# Altium footprint library ecg-go.PcbLib: 21 footprints (part 1 of 2)
Each footprint in its own frame and in the unit in brackets; x right, y up, seen from the top. Pads: shape width x height; smd on the part's side, far side on the other; paste and mask are expansions set on the pad; w line width, h text height; cw(c..) or ccw(c..) is an arc to the next point about the centre after c.
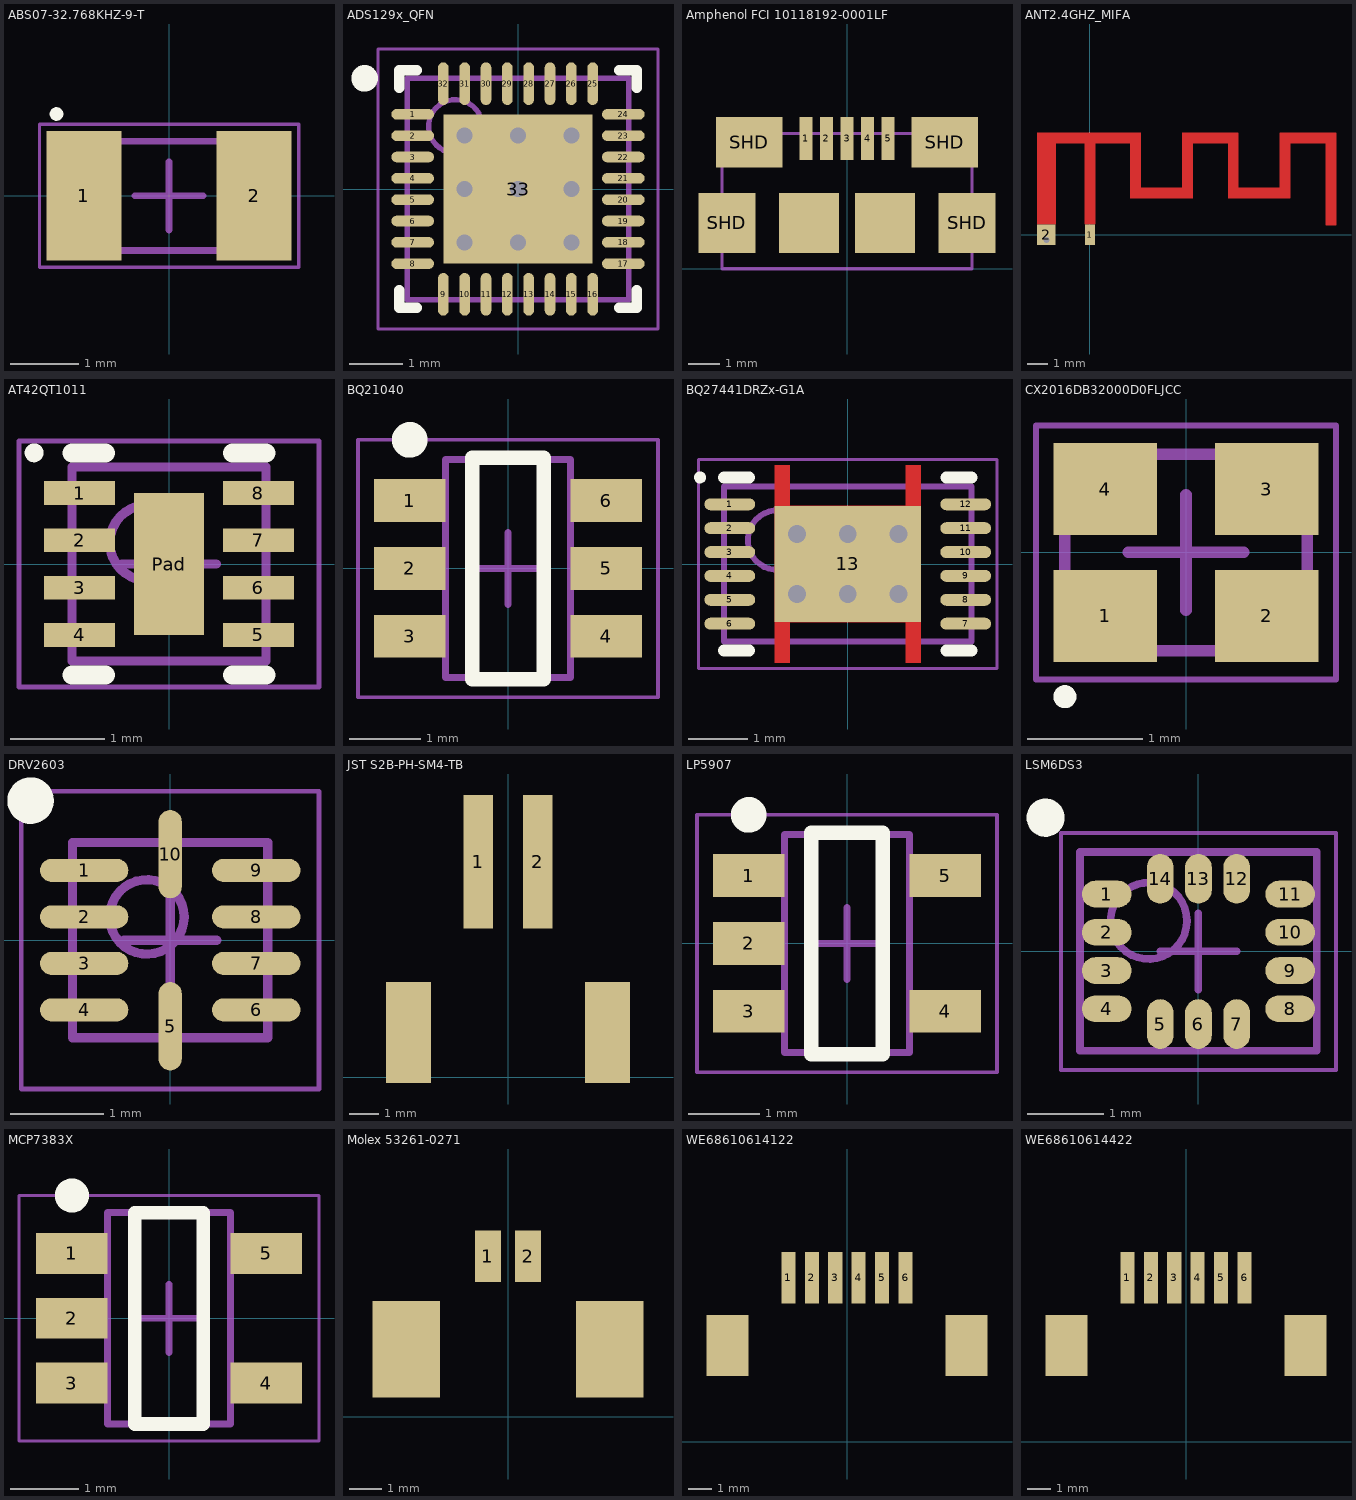
[diagram p0: the footprints below, top view; thin cyan lines are the x and y axes]

## ABS07-32.768KHZ-9-T [mm] "Crystal - 32.768 kHz, 9 pF, 70 kOhm"
height 0.9
pads (2):
  rect 1.1x1.9 smd paste-0.05 mask+0.05: 1(-1.25,0) 2(1.25,0)
Top Overlay:
  circle w0.1: c-1.65,1.2 r0.05
Mechanical 13:
  lines w0.1: -1.65,-0.8 1.65,-0.8 1.65,0.8 -1.65,0.8 -1.65,-0.8
Mechanical 15:
  lines w0.05: -1.9,-1.05 1.9,-1.05 1.9,1.05 -1.9,1.05 -1.9,-1.05
  lines w0.1: -0.5,0 0.5,0 ; 0,-0.5 0,0.5
3D body "ABS07-32.768KHZ-9-T.step": height 0.88, standoff -0.01, extent -1.6,-0.749 1.6,0.749

## ADS129x_QFN [mm] "QFN, 32-Leads, Body 4,00x4,00mm, Pitch 0,40mm, Thermal Pad 2,80x2,80mm, IPC Medium Density"
height 1
pads (33):
  oval 0.8x0.2 smd paste-0.04 mask+0.05: 1(-1.975,1.4) 2(-1.975,1) 3(-1.975,0.6) 4(-1.975,0.2) 5(-1.975,-0.2) 6(-1.975,-0.6) 7(-1.975,-1) 8(-1.975,-1.4) 17(1.975,-1.4) 18(1.975,-1) 19(1.975,-0.6) 20(1.975,-0.2) 21(1.975,0.2) 22(1.975,0.6) 23(1.975,1) 24(1.975,1.4)
  oval 0.2x0.8 smd paste-0.04 mask+0.05: 9(-1.4,-1.975) 10(-1,-1.975) 11(-0.6,-1.975) 12(-0.2,-1.975) 13(0.2,-1.975) 14(0.6,-1.975) 15(1,-1.975) 16(1.4,-1.975) 25(1.4,1.975) 26(1,1.975) 27(0.6,1.975) 28(0.2,1.975) 29(-0.2,1.975) 30(-0.6,1.975) 31(-1,1.975) 32(-1.4,1.975)
  rect 2.8x2.8 smd paste-2.8 mask+0.05: 33(0,0)
via -1,-1 diameter 0.6 hole 0.3
via 0,0 diameter 0.6 hole 0.3
via 0,-1 diameter 0.6 hole 0.3
via -1,0 diameter 0.6 hole 0.3
via 1,-1 diameter 0.6 hole 0.3
via 1,0 diameter 0.6 hole 0.3
via 1,1 diameter 0.6 hole 0.3
via -1,1 diameter 0.6 hole 0.3
via 0,1 diameter 0.6 hole 0.3
Top Overlay:
  circle w0.25: c-2.875,2.075 r0.125
  lines w0.2: -2.225,-1.9 -2.225,-2.225 -1.9,-2.225 ; -2.225,1.9 -2.225,2.225 -1.9,2.225 ; 1.9,-2.225 2.225,-2.225 2.225,-1.9 ; 1.9,2.225 2.225,2.225 2.225,1.9
Top Paste:
  rectangle: -1.35,0.15 -0.15,1.35
  rectangle: 0.15,0.15 1.35,1.35
  rectangle: 0.15,-1.35 1.35,-0.15
  rectangle: -1.35,-1.35 -0.15,-0.15
Mechanical 13:
  circle w0.1: c-1.175,1.175 r0.5
  lines w0.1: -2.075,-2.075 -2.075,2.075 2.075,2.075 2.075,-2.075 -2.075,-2.075
Mechanical 15:
  lines w0.05: -2.625,-2.625 -2.625,2.625 2.625,2.625 2.625,-2.625 -2.625,-2.625
  lines w0.1: -0.5,0 0.5,0 ; 0,-0.5 0,0.5
3D body "QFN40P400X400X100_HS-33N.step": height 1, standoff 0, extent -2.125,-2.125 2.125,2.125

## Amphenol FCI 10118192-0001LF [mm] "Conn - USB Micro B, SMD, Receptacle"
height 2.8
pads (11):
  rect 0.4x1.35 smd paste-0.05 mask+0.05: 1(-1.3,4.125) 2(-0.65,4.125) 3(0,4.125) 4(0.65,4.125) 5(1.3,4.125)
  rect 1.8x1.9 smd paste-0.05 mask+0.05: SHD(-3.8,1.45) SHD(3.8,1.45)
  rect 2.1x1.6 smd paste-0.05 mask+0.05: SHD(-3.1,4) SHD(3.1,4)
  rect 1.9x1.9 smd paste-0.05 mask+0.05: ""(-1.2,1.45) ""(1.2,1.45)
Mechanical 15:
  lines w0.1: -3.956,0 3.956,0 3.956,4.28 -3.956,4.28 -3.956,0
3D body "Amphenol FCi 10118192-0001LF.stp": height 2.76, standoff -0.25, extent -3.956,-1.38 3.956,4.28

## ANT2.4GHZ_MIFA [mm] "Antenna - Meandered Inverted F Antenna (IFA)"
pads (2):
  rect 0.5x1 smd paste-0.5: 1(0,0)
  rect 0.9x1 smd paste-0.9: 2(-2.1,0)
via -2.1,-0.25 diameter 0.5 hole 0.3
Top Layer:
  region: -2.55,0.5 -2.55,4.9 2.45,4.9 2.45,2.26 4.45,2.26 4.45,4.9 7.15,4.9 7.15,2.26 9.15,2.26 9.15,4.9 11.85,4.9 11.85,0.46 11.35,0.46 11.35,4.4 9.65,4.4 9.65,1.76 6.65,1.76 6.65,4.4 4.95,4.4 4.95,1.76 1.95,1.76 1.95,4.4 0.25,4.4 0.25,0.5 -0.25,0.5 -0.25,4.4 -1.65,4.4 -1.65,0.5

## AT42QT1011 [mm] "IC - Capacitive Touch Sensor, 1 Button"
height 0.6
pads (9):
  rect 0.75x0.25 smd paste-0.05 mask+0.05: 1(-0.945,0.75) 2(-0.945,0.25) 3(-0.945,-0.25) 4(-0.945,-0.75) 5(0.945,-0.75) 6(0.945,-0.25) 7(0.945,0.25) 8(0.945,0.75)
  rect 0.74x1.5 smd paste-1.5 mask+0.05: Pad(0,0)
Top Overlay:
  circle w0.1: c-1.425,1.175 r0.05
  lines w0.2: -1.025,-1.175 -0.67,-1.175 ; -1.025,1.175 -0.67,1.175 ; 0.67,-1.175 1.025,-1.175 ; 0.67,1.175 1.025,1.175
Top Paste:
  rectangle: -0.3,0.1 0.3,0.7
  rectangle: -0.3,-0.7 0.3,-0.1
Mechanical 13:
  circle w0.1: c-0.225,0.225 r0.4
  lines w0.1: -1.025,-1.025 -1.025,1.025 1.025,1.025 1.025,-1.025 -1.025,-1.025
Mechanical 15:
  lines w0.05: -1.585,-1.3 -1.585,1.3 1.585,1.3 1.585,-1.3 -1.585,-1.3
  lines w0.1: -0.5,0 0.5,0 ; 0,-0.5 0,0.5
3D body "SON50P200X60_HS-9N.step": height 0.6, standoff 0, extent -1.075,-1.025 1.075,1.025

## BQ21040 [mm] "SOT23, 6-Leads, Body 2,90x2,80mm, Pitch 0,95mm, IPC Medium Density"
height 1.45
pads (6):
  rect 1x0.6 smd paste-0.05 mask+0.05: 1(-1.375,0.95) 2(-1.375,0) 3(-1.375,-0.95) 4(1.375,-0.95) 5(1.375,0) 6(1.375,0.95)
Top Overlay:
  circle w0.25: c-1.375,1.8 r0.125
  lines w0.2: -0.5,-1.55 0.5,-1.55 0.5,1.55 -0.5,1.55 -0.5,-1.55
Mechanical 13:
  lines w0.1: -0.875,-1.525 -0.875,1.525 0.875,1.525 0.875,-1.525 -0.875,-1.525
Mechanical 15:
  lines w0.05: -2.1,-1.8 -2.1,1.8 2.1,1.8 2.1,-1.8 -2.1,-1.8
  lines w0.1: -0.5,0 0.5,0 ; 0,-0.5 0,0.5
3D body "SOT95P280X145-6N.step": height 1.45, standoff 0, extent -1.5,-1.525 1.5,1.525

## BQ27441DRZx-G1A [mm] "SON, 12-Leads, Body 4x2.5mm, Pitch 0.4mm, Thermal Pad 1.95x2.45mm, TI Recommended"
height 1
pads (13):
  oval 0.85x0.2 smd paste-0.05 mask+0.05: 1(-1.975,1) 2(-1.975,0.6) 3(-1.975,0.2) 4(-1.975,-0.2) 5(-1.975,-0.6) 6(-1.975,-1) 7(1.975,-1) 8(1.975,-0.6) 9(1.975,-0.2) 10(1.975,0.2) 11(1.975,0.6) 12(1.975,1)
  rect 2.45x1.95 smd paste-2.45 mask+0.05: 13(0,0)
via 0.85,-0.5 diameter 0.6 hole 0.3
via 0.85,0.5 diameter 0.6 hole 0.3
via -0.85,0.5 diameter 0.6 hole 0.3
via -0.85,-0.5 diameter 0.6 hole 0.3
via 0,0.5 diameter 0.6 hole 0.3
via 0,-0.5 diameter 0.6 hole 0.3
Top Layer:
  region: -1.225,-1.65 -1.225,1.65 -0.975,1.65 -0.975,0.975 0.975,0.975 0.975,1.65 1.225,1.65 1.225,-1.65 0.975,-1.65 0.975,-0.975 -0.975,-0.975 -0.975,-1.65
Top Overlay:
  circle w0.1: c-2.475,1.45 r0.05
  lines w0.2: -2.075,-1.45 -1.65,-1.45 ; -2.075,1.45 -1.65,1.45 ; 1.65,-1.45 2.075,-1.45 ; 1.65,1.45 2.075,1.45
Top Paste:
  rectangle: -1.175,-1.6 -1.025,-1.1
  rectangle: -1.1,0.1 -0.1,0.9
  region: 1.1,0.9 0.1,0.9 0.1,0.1 1.1,0.1
  region: 1.1,-0.1 0.1,-0.1 0.1,-0.9 1.1,-0.9
  rectangle: -1.1,-0.9 -0.1,-0.1
  rectangle: -1.175,1.1 -1.025,1.6
  region: 1.175,-1.1 1.025,-1.1 1.025,-1.6 1.175,-1.6
  region: 1.175,1.6 1.025,1.6 1.025,1.1 1.175,1.1
Mechanical 13:
  circle w0.1: c-1.175,0.4 r0.5
  lines w0.1: -2.075,-1.3 -2.075,1.3 2.075,1.3 2.075,-1.3 -2.075,-1.3
Mechanical 15:
  lines w0.05: -2.5,-1.75 -2.5,1.75 2.5,1.75 2.5,-1.75 -2.5,-1.75
  lines w0.1: -0.5,0 0.5,0 ; 0,-0.5 0,0.5
3D body "SON40P400X100_HS-13N.step": height 1, standoff 0, extent -2.125,-1.3 2.125,1.3

## CX2016DB32000D0FLJCC [mm] "Crystal - 32 MHz, 8 pF, 80 ohm"
height 0.45
pads (4):
  rect 0.9x0.8 smd paste-0.05 mask+0.05: 1(-0.7,-0.55) 2(0.7,-0.55) 3(0.7,0.55) 4(-0.7,0.55)
Top Overlay:
  circle w0.1: c-1.05,-1.25 r0.05
Mechanical 13:
  lines w0.1: -1.05,-0.85 -1.05,0.85 1.05,0.85 1.05,-0.85 -1.05,-0.85
Mechanical 15:
  lines w0.05: -1.3,-1.1 -1.3,1.1 1.3,1.1 1.3,-1.1 -1.3,-1.1
  lines w0.1: -0.5,0 0.5,0 ; 0,-0.5 0,0.5
3D body "Kyocera CX2016DB.step": height 0.39, standoff -0.01, extent -1.025,-0.825 1.025,0.825

## DRV2603 [mm] "IC - Haptic Drive, ERM/LRA, Auto Resonance"
height 0.8
pads (10):
  oval 0.95x0.25 smd paste-0.05 mask+0.05: 1(-0.925,0.75) 2(-0.925,0.25) 3(-0.925,-0.25) 4(-0.925,-0.75) 6(0.925,-0.75) 7(0.925,-0.25) 8(0.925,0.25) 9(0.925,0.75)
  oval 0.25x0.95 smd paste-0.05 mask+0.05: 5(0,-0.925) 10(0,0.925)
Top Overlay:
  circle w0.25: c-1.5,1.5 r0.125
Mechanical 13:
  circle w0.1: c-0.25,0.25 r0.4
  lines w0.1: -1.05,-1.05 1.05,-1.05 1.05,1.05 -1.05,1.05 -1.05,-1.05
Mechanical 15:
  lines w0.05: -1.6,-1.6 1.6,-1.6 1.6,1.6 -1.6,1.6 -1.6,-1.6
  lines w0.1: -0.5,0 0.5,0 ; 0,-0.5 0,0.5
3D body "QFN50P200X200X80-10N.step": height 0.8, standoff 0, extent -1.1,-1.1 1.1,1.1

## JST S2B-PH-SM4-TB [mm] "Conn - Battery, JST, Male, 2 Pin, SMD, Right Angle"
height 5.5
pads (4):
  rect 1x4.5 smd paste-0.05 mask+0.05: 1(-1,7.25) 2(1,7.25)
  rect 1.5x3.4 smd paste-0.05 mask+0.05: ""(-3.35,1.5) ""(3.35,1.5)
3D body "JST S2B-PH-SM4-TB.step": height 5.61, standoff 0.01, extent -3.95,0 3.95,8.6

## LP5907 [mm] "SOT23, 5-Leads, Body 2,90x2,80mm, Pitch 0,95mm, IPC Medium Density"
height 1.45
pads (5):
  rect 1x0.6 smd paste-0.05 mask+0.05: 1(-1.375,0.95) 2(-1.375,0) 3(-1.375,-0.95) 4(1.375,-0.95) 5(1.375,0.95)
Top Overlay:
  circle w0.25: c-1.375,1.8 r0.125
  lines w0.2: -0.5,-1.55 0.5,-1.55 0.5,1.55 -0.5,1.55 -0.5,-1.55
Mechanical 13:
  lines w0.1: -0.875,-1.525 -0.875,1.525 0.875,1.525 0.875,-1.525 -0.875,-1.525
Mechanical 15:
  lines w0.05: -2.1,-1.8 -2.1,1.8 2.1,1.8 2.1,-1.8 -2.1,-1.8
  lines w0.1: -0.5,0 0.5,0 ; 0,-0.5 0,0.5
3D body "SOT95P280X145-5N.step": height 1.45, standoff 0, extent -1.5,-1.525 1.5,1.525

## LSM6DS3 [mm] "IC - Inertial Measurement Unit, Accelerometer, Gyroscope, 6D"
height 0.86
pads (14):
  oval 0.65x0.35 smd paste-0.05 mask+0.025: 1(-1.2,0.75) 2(-1.2,0.25) 3(-1.2,-0.25) 4(-1.2,-0.75) 8(1.2,-0.75) 9(1.2,-0.25) 10(1.2,0.25) 11(1.2,0.75)
  oval 0.35x0.65 smd paste-0.05 mask+0.025: 5(-0.5,-0.95) 6(0,-0.95) 7(0.5,-0.95) 12(0.5,0.95) 13(0,0.95) 14(-0.5,0.95)
Top Overlay:
  circle w0.25: c-2,1.75 r0.125
Mechanical 13:
  circle w0.1: c-0.65,0.4 r0.5
  lines w0.1: -1.55,-1.3 -1.55,1.3 1.55,1.3 1.55,-1.3 -1.55,-1.3
Mechanical 15:
  lines w0.05: -1.8,-1.55 -1.8,1.55 1.8,1.55 1.8,-1.55 -1.8,-1.55
  lines w0.1: -0.5,0 0.5,0 ; 0,-0.5 0,0.5
3D body "PQFN50P300X250X86-14N.step": height 0.86, standoff 0, extent -1.55,-1.3 1.55,1.3

## MCP7383X [mm] "SOT23, 5-Leads, Body 2,90x2,70mm, Pitch 0,95mm, IPC Medium Density"
height 1.45
pads (5):
  rect 1.05x0.6 smd paste-0.05 mask+0.05: 1(-1.425,0.95) 2(-1.425,0) 3(-1.425,-0.95) 4(1.425,-0.95) 5(1.425,0.95)
Top Overlay:
  circle w0.25: c-1.425,1.8 r0.125
  lines w0.2: -0.5,-1.55 -0.5,1.55 0.5,1.55 0.5,-1.55 -0.5,-1.55
Mechanical 13:
  lines w0.1: -0.9,-1.55 0.9,-1.55 0.9,1.55 -0.9,1.55 -0.9,-1.55
Mechanical 15:
  lines w0.05: -2.2,-1.8 2.2,-1.8 2.2,1.8 -2.2,1.8 -2.2,-1.8
  lines w0.1: -0.5,0 0.5,0 ; 0,-0.5 0,0.5
3D body "SOT95P270X145-5N.step": height 1.45, standoff 0, extent -1.7,-1.55 1.7,1.55

## Molex 53261-0271 [mm] "Conn - Battery, PicoBlade, Male, 2 Pin, SMD, Right Angle"
height 3.4
pads (4):
  rect 0.8x1.6 smd paste-0.05 mask+0.05: 1(-0.625,5) 2(0.625,5)
  rect 2.1x3 smd paste-0.05 mask+0.05: ""(-3.175,2.1) ""(3.175,2.1)
3D body "Molex 53261-0271.stp": height 3.41, standoff 0.01, extent -3.825,0 3.825,5.2

## WE68610614122 [mm] "Conn - FFC, 6 Pin, 1 mm Pitch, Top Contacts, SMD, Right Angle, Slide Lock"
height 3
pads (8):
  rect 0.6x2.2 smd paste-0.05 mask+0.05: 1(-2.5,7) 2(-1.5,7) 3(-0.5,7) 4(0.5,7) 5(1.5,7) 6(2.5,7)
  rect 1.8x2.6 smd paste-0.05 mask+0.05: ""(-5.1,4.1) ""(5.1,4.1)
3D body "WE68610614122-rev1.stp": height 3.01, standoff 0.01, extent -6.5,0 6.5,7.1

## WE68610614422 [mm] "Conn - FFC, 6 Pin, 1 mm Pitch, Bottom Contacts, SMD, Right Angle, Slide Lock"
height 3
pads (8):
  rect 0.6x2.2 smd paste-0.05 mask+0.05: 1(-2.5,7) 2(-1.5,7) 3(-0.5,7) 4(0.5,7) 5(1.5,7) 6(2.5,7)
  rect 1.8x2.6 smd paste-0.05 mask+0.05: ""(-5.1,4.1) ""(5.1,4.1)
3D body "WE68610614422-rev1.stp": height 3.01, standoff 0.01, extent -6.5,0 6.5,7.1